# EAGLE library part 5584ИД14 (library std-logic-5584series)
АЕЯР.431200.209 ТУ 5584ИД14У, 5584ИД14АУ- Два дешифратора-демультиплексора 2–4 с инверсией на выходе.
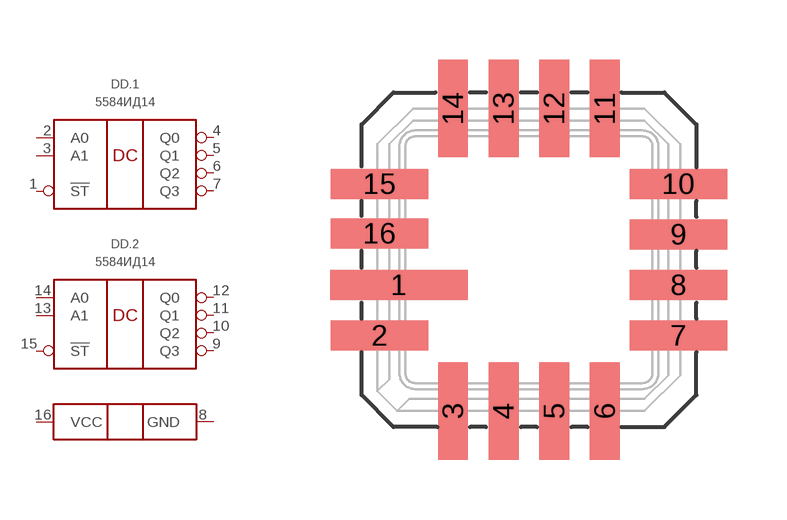
[diagram p5: symbol with the pads of 5119.16-А; footprint 5119.16-А]

Designator prefix DD; gates .1=5584ИД14 .2=5584ИД14 G$3=5584_PWR

## 5584ИД14У  [5119.16-А]
1  .1:!ST  in
2  .1:A0  in
3  .1:A1  in
4  .1:Q0  out
5  .1:Q1  out
6  .1:Q2  out
7  .1:Q3  out
8  G$3:GND  pwr
9  .2:Q3  out
10  .2:Q2  out
11  .2:Q1  out
12  .2:Q0  out
13  .2:A1  in
14  .2:A0  in
15  .2:!ST  in
16  G$3:VCC  pwr

## 5584ИД14АУ  [5119.16-А]
Pads as for 5119.16-А

## Footprint 5119.16-А (pad centres in mm)
smd 3.45 x 0.75: 1 -3.26,-0.635
smd 2.45 x 0.75: 2 -3.75,-1.905; 7 3.75,-1.905; 8 3.75,-0.635; 9 3.75,0.635; 10 3.75,1.905; 15 -3.75,1.905; 16 -3.75,0.66
smd 0.75 x 2.45: 3 -1.905,-3.8; 4 -0.635,-3.8; 5 0.635,-3.8; 6 1.905,-3.8; 11 1.905,3.8; 12 0.635,3.8; 13 -0.635,3.8; 14 -1.905,3.8